# Altium schematic symbol library LAB3all.SchLib: 12 symbols
Pins are listed as number, name and electrical type; pins without a type are passive.

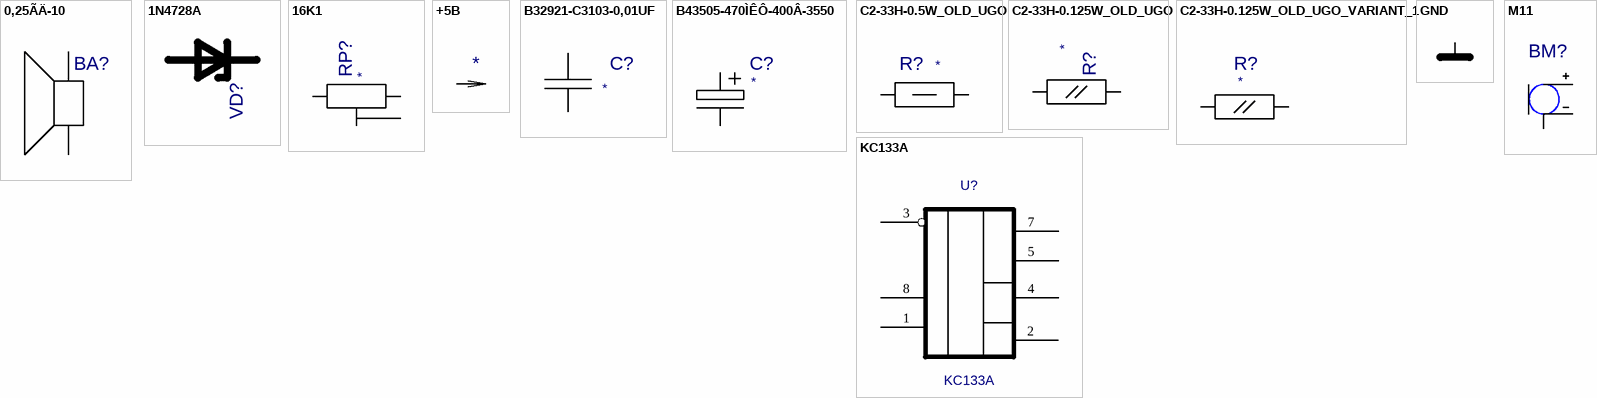
[diagram p0: symbols 0,25ÃÄ-10 to M11]

## 0,25ÃÄ-10
designator BA?  (value not drawn)
Value: *
footprint 0,25ÃÄ-10
pins: 1, 2, 3 hidden, 4 hidden, 5 hidden, 6 hidden

## 1N4728A
designator VD?  (value not drawn)
Value: *
footprint DO-41(DO-204AL)
pins: 1 A, 2 K

## 16K1
designator RP?  (value not drawn)
Value: *
footprint 16K1
pins: 1, 2, 3

## +5B
designator PWR?  (value not drawn)
Value: *
pins: 1 +5B (power)

## B32921-C3103-0,01UF
designator C?  (value not drawn)
Value: *
footprint B32921(13X4)
pins: 1, 2

## B43505-470ÌÊÔ-400Â-3550
designator C?  (value not drawn)
Value: *
footprint B43505-3550
pins: 1, 2, 3 hidden

## C2-33H-0.5W_OLD_UGO
designator R?  (value not drawn)
Value: *
footprint C2-33H-0.5W_15MM
pins: 1, 2

## C2-33H-0.125W_OLD_UGO
designator R?  (value not drawn)
Value: *
footprint C2-33H-0.125W
pins: 1, 2

## C2-33H-0.125W_OLD_UGO_VARIANT_1
designator R?, comment C2-33H-0.125W_OLD_UGO  (value not drawn)
C2-33H-0.125W_OLD_UGO_VARIANT_1; Value: *
footprint C2-33H-0.125W
pins: 1, 2

## GND
designator PWR?  (value not drawn)
Value: *
pins: 1 GND (power)

## KC133A
designator U?
Value: *
footprint KC133A
pins: 1, 2, 3 (power), 4, 5, 7 6, 8 7

## M11
designator BM?  (value not drawn)
Value: *
footprint M11
pins: 1 OUT, 2 GND, 3 VDD, 4 hidden, 5 hidden, 6 hidden, 7 hidden